# Altium integrated library Transistor.IntLib: 3457 symbols (part 78 of 78)
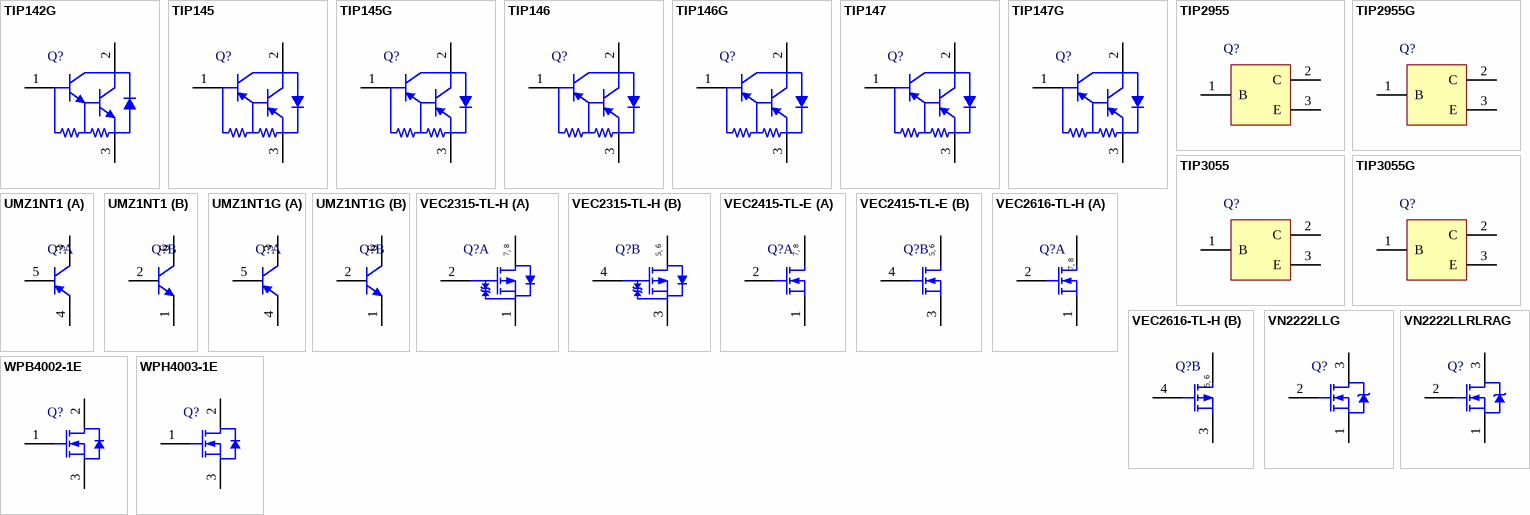
[diagram p171: symbols TIP142G to WPH4003-1E]

## VEC2616-TL-H
designator Q?
Power MOSFET 60 V, 3 A, 80 mOhm, -60 V, -2.5 A, 137 mOhm, Complementary Dual, 8-Pin VEC, Pb-Free, Tape and Reel; Manufacturer: On Semiconductor; PartNumber: VEC2616-TL-H; PD Max (W): 0.9; V(BR)DSS Min (V): 60; VGS Max (V): 20; VGS(th) Max (V): 2.6; PackageReference: VEC-8; PackageDescription: 8-Pin Small Outline Transistor, Body 2.9 x 2.3 mm, Pitch 0.65 mm; Supplier 1: Digi-Key; Supplier Part Number 1: VEC2616-TL-H-ND; Supplier 2: Newark; Supplier Part Number 2: 65T1805; Supplier 3: Mouser; Supplier Part Number 3: 863-VEC2616-TL-H; Channel Polarity: Complementary; Configuration: Dual; Package Type: SOT-28FL / VEC-8; Packing: Tape and Reel; RoHS: Pb-Free; Mounting Technology: Surface Mount; ComponentLink1Description: Manufacturer URL; ComponentLink1URL: http://www.onsemi.com/; ComponentLink2Description: Datasheet; ComponentLink2URL: http://www.onsemi.com/pub_link/Collateral/ENA1822-D.PDF; ComponentLink3Description: Package Specification; ComponentLink3URL: http://www.onsemi.com/pub_link/Collateral/EN8699-D.PDF
footprint ONSC-VEC-8_V (SOT23, 8-Leads, Body 2.9x2.3mm, Pitch 0.65mm)
part A pins: 1 S1, 2 G1, 7 D1, 8 D1
part B pins: 3 S2, 4 G2, 5 D2, 6 D2
part A text: 7, 8
part B text: 5, 6

## VN2222LLG
designator Q?
Small Signal MOSFET, 150 mA, 60 V, N-Channel, 3-Pin TO-92, Pb-Free, Bulk Box; Manufacturer: On Semiconductor; PartNumber: VN2222LLG; Channel Polarity: N Channel; Configuration: Single; ID Max (A): 0.15; PD Max (W): 0.4; V(BR)DSS Min (V): 60; VGS Max (V): 20; VGS(th) Max (V): 2.5; DatasheetVersion: Rev. 4; PackageVersion: Rev. AM; PackageReference: TO-92-3-29-11_AM_SL; PackageDescription: 3-Pin Transistor Outline, Body 4.825 x 3.685 mm, Pitch 1.27 mm; Supplier 1: Digi-Key; Supplier Part Number 1: VN2222LLGOS-ND; Supplier 2: Farnell; Supplier Part Number 2: 9556834; Supplier 3: Newark; Supplier Part Number 3: 45J2394; Supplier 4: Mouser; Supplier Part Number 4: 863-VN2222LLG; Package Type: TO-92; Packing: Bulk Box; RoHS: Pb-Free; Mounting Technology: Through Hole; ComponentLink1Description: Manufacturer URL; ComponentLink1URL: http://www.onsemi.com/; ComponentLink2Description: Datasheet; ComponentLink2URL: http://www.onsemi.com/pub_link/Collateral/VN2222LL-D.PDF; ComponentLink3Description: Package Specification; ComponentLink3URL: http://www.onsemi.cn/pub_link/Collateral/2N6426-D.PDF
footprint ONSC-TO-92-3-29-11 (TO, 3-Leads, Body Dia 4.7mm, Pitch 1.27mm)
pins: 1 S, 2 G, 3 D

## VN2222LLRLRAG
designator Q?
Small Signal MOSFET, 150 mA, 60 V, N-Channel, 3-Pin TO-92, Pb-Free, Tape and Reel; Manufacturer: On Semiconductor; PartNumber: VN2222LLRLRAG; Channel Polarity: N Channel; Configuration: Single; ID Max (A): 0.15; PD Max (W): 0.4; V(BR)DSS Min (V): 60; VGS Max (V): 20; VGS(th) Max (V): 2.5; DatasheetVersion: Rev. 4; PackageVersion: Rev. AM; PackageReference: TO-92-3-29-11_AM_BL; PackageDescription: 3-Pin Transistor Outline, Body 4.825 x 3.685 mm, Pitch 1.27 mm; Supplier 1: Digi-Key; Supplier Part Number 1: VN2222LLRLRAGOSTR-ND; Supplier 2: Digi-Key; Supplier Part Number 2: VN2222LLRLRAGOSCT-ND; Supplier 3: Mouser; Supplier Part Number 3: 863-VN2222LLRLRAG; Package Type: TO-92; Packing: Tape and Reel; RoHS: Pb-Free; Mounting Technology: Through Hole; ComponentLink1Description: Manufacturer URL; ComponentLink1URL: http://www.onsemi.com/; ComponentLink2Description: Datasheet; ComponentLink2URL: http://www.onsemi.com/pub_link/Collateral/VN2222LL-D.PDF; ComponentLink3Description: Package Specification; ComponentLink3URL: http://www.onsemi.com/pub_link/Collateral/MAC97-D.PDF
footprint ONSC-TO-92-3-29-11_AM_BL (TO, 3-Leads, Body Dia 4.7mm, Pitch 2.6mm)
pins: 1 S, 2 G, 3 D

## WPB4002-1E
designator Q?
N-Channel Power MOSFET, 600 V, 23 A, 0.36 Ohm, 3-Pin TO-3P, Pb-Free, Tube; Manufacturer: On Semiconductor; PartNumber: WPB4002-1E; Channel Polarity: N Channel; Ciss Typ (pF): 2200; Configuration: Single; Coss Typ (pF): 400; Crss Typ (pF): 83; ID Max (A): 23; Qrr Typ (nC): 340; V(BR)DSS Min (V): 600; VGS Max (V): 30; VGS(th) Max (V): 5; PackageVersion: Rev. O, 04/2012; PackageReference: TO-3P-3L-3-340AF; PackageDescription: 3-Pin Flange Mount, Vertical Straight Lead, Body 15.6 x 4.8 mm, Pitch 5.45 mm; Supplier 1: Newark; Supplier Part Number 1: 11X5238; Supplier 2: Mouser; Supplier Part Number 2: 863-WPB4002-1E; Package Type: TO-3PB; Packing: Tube; RoHS: Pb-Free; Mounting Technology: Through Hole; ComponentLink1Description: Manufacturer URL; ComponentLink1URL: http://www.onsemi.com/; ComponentLink2Description: Datasheet; ComponentLink2URL: http://www.onsemi.com/pub_link/Collateral/ENA1769-D.PDF; ComponentLink3Description: Package Specification; ComponentLink3URL: http://www.onsemi.com/pub_link/Collateral/340AF.PDF
footprint ONSC-TO-3P-3L-3-340AF (FM, 3-Leads, Body 15.8x5mm, Pitch 5.45mm)
pins: 1 G, 2 D, 3 S

## WPH4003-1E
designator Q?
N-Channel Power MOSFET, 1700 V, 3 A, 10.5 Ohm, 3-Pin TO-3PF-3L, Pb-Free, Tube; Manufacturer: On Semiconductor; PartNumber: WPH4003-1E; Channel Polarity: N Channel; Ciss Typ (pF): 850; Configuration: Single; Coss Typ (pF): 90; Crss Typ (pF): 27; ID Max (A): 3; Qrr Typ (nC): 3000; V(BR)DSS Min (V): 1700; VGS Max (V): 30; VGS(th) Max (V): 4; PackageVersion: Rev. O, 04/2012; PackageReference: TO-3PF-3L-3-340AH; PackageDescription: 3-Pin Flange Mount, Body 15.5 x 5.5 mm, Pitch 5.45 mm; Supplier 1: Digi-Key; Supplier Part Number 1: WPH4003-1EOS-ND; Supplier 2: Newark; Supplier Part Number 2: 60W2015; Supplier 3: Mouser; Supplier Part Number 3: 863-WPH4003-1E; Package Type: TO-3PF-3L; Packing: Tube; RoHS: Pb-Free; Mounting Technology: Through Hole; ComponentLink1Description: Manufacturer URL; ComponentLink1URL: http://www.onsemi.com/; ComponentLink2Description: Datasheet; ComponentLink2URL: http://www.onsemi.com/pub_link/Collateral/ENA1967-D.PDF; ComponentLink3Description: Package Specification; ComponentLink3URL: http://www.onsemi.com/pub_link/Collateral/340AH.PDF
footprint ONSC-TO-3PF-3L-3-340AH (FM, 3-Leads, Body 15.7x5.7mm, Pitch 5.45mm)
pins: 1 G, 2 D, 3 S